# Altium footprint library PcbLib1.PcbLib: 2 footprints
Each footprint in its own frame and in the unit in brackets; x right, y up, seen from the top. Pads: shape width x height; smd on the part's side, far side on the other; paste and mask are expansions set on the pad; w line width, h text height; cw(c..) or ccw(c..) is an arc to the next point about the centre after c.
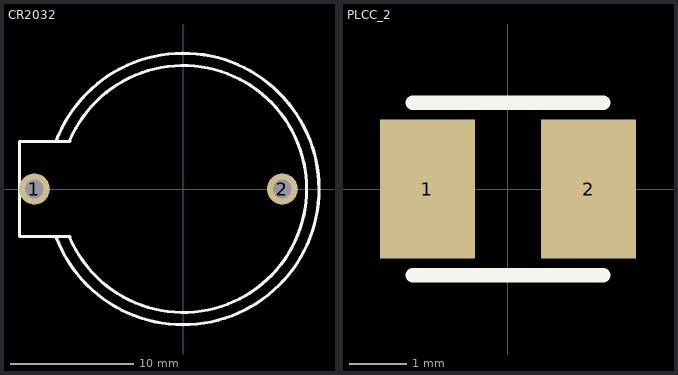
[diagram p0: the footprints below, top view; thin cyan lines are the x and y axes]

## CR2032 [mm]
pads (2):
  round 2.5 hole 1.5: 1(-12.05,0) 2(8.035,0)
Top Overlay:
  lines w0.254: -10.3,3.862 cw(c0,0) -10.286,-3.898 ; -9.191,-3.939 ccw(c0,0) -9.191,3.939 ; -9.191,-3.85 -13.25,-3.85 -13.25,3.85 -9.191,3.85

## PLCC_2 [mm]
pads (2):
  rect 1.65x2.41 smd: 1(-1.4,0) 2(1.4,0)
Top Overlay:
  lines w0.254: -1.65,-1.5 0,-1.5 1.65,-1.5 ; -1.65,1.5 0,1.5 1.65,1.5
3D body: height 1, standoff 0, extent 1.625,-1.125 1.85,1.125
3D body: height 1, standoff 0, extent -1.85,-1.125 -1.625,1.125
3D body: height 2.15, standoff 0, extent -1.216,-1.198 1.175,1.198
3D body: height 2.1, standoff 0, extent -1.625,-1.5 1.65,1.5
3D body: height 1.7, standoff 0, extent -1.625,-1.5 1.65,1.5